# EAGLE library part AM20EW-2403S-NZ (library SCX3)
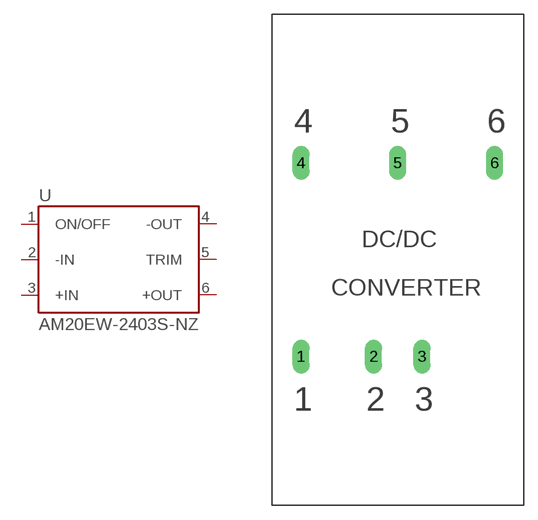
[diagram p1: symbol with the pads of AM20EW-NZ; footprint AM20EW-NZ]

Designator prefix U

## AM20EW-2403S-NZ  [AM20EW-NZ]
1  ON/OFF  in
2  -IN  in
3  +IN  in
4  -OUT  out
5  TRIM  in
6  +OUT  out

## Footprint AM20EW-NZ (pad centres in mm)
DC-DC CONVERTER
drill 1.2 long: 1 -10.16,-10.16; 2 -2.54,-10.16; 3 2.54,-10.16; 4 -10.16,10.16; 5 0,10.16; 6 10.16,10.16